# Altium schematic symbol library ICs_EFR.SchLib: 131 symbols (part 1 of 4)
Pins are listed as number, name and electrical type; pins without a type are passive.

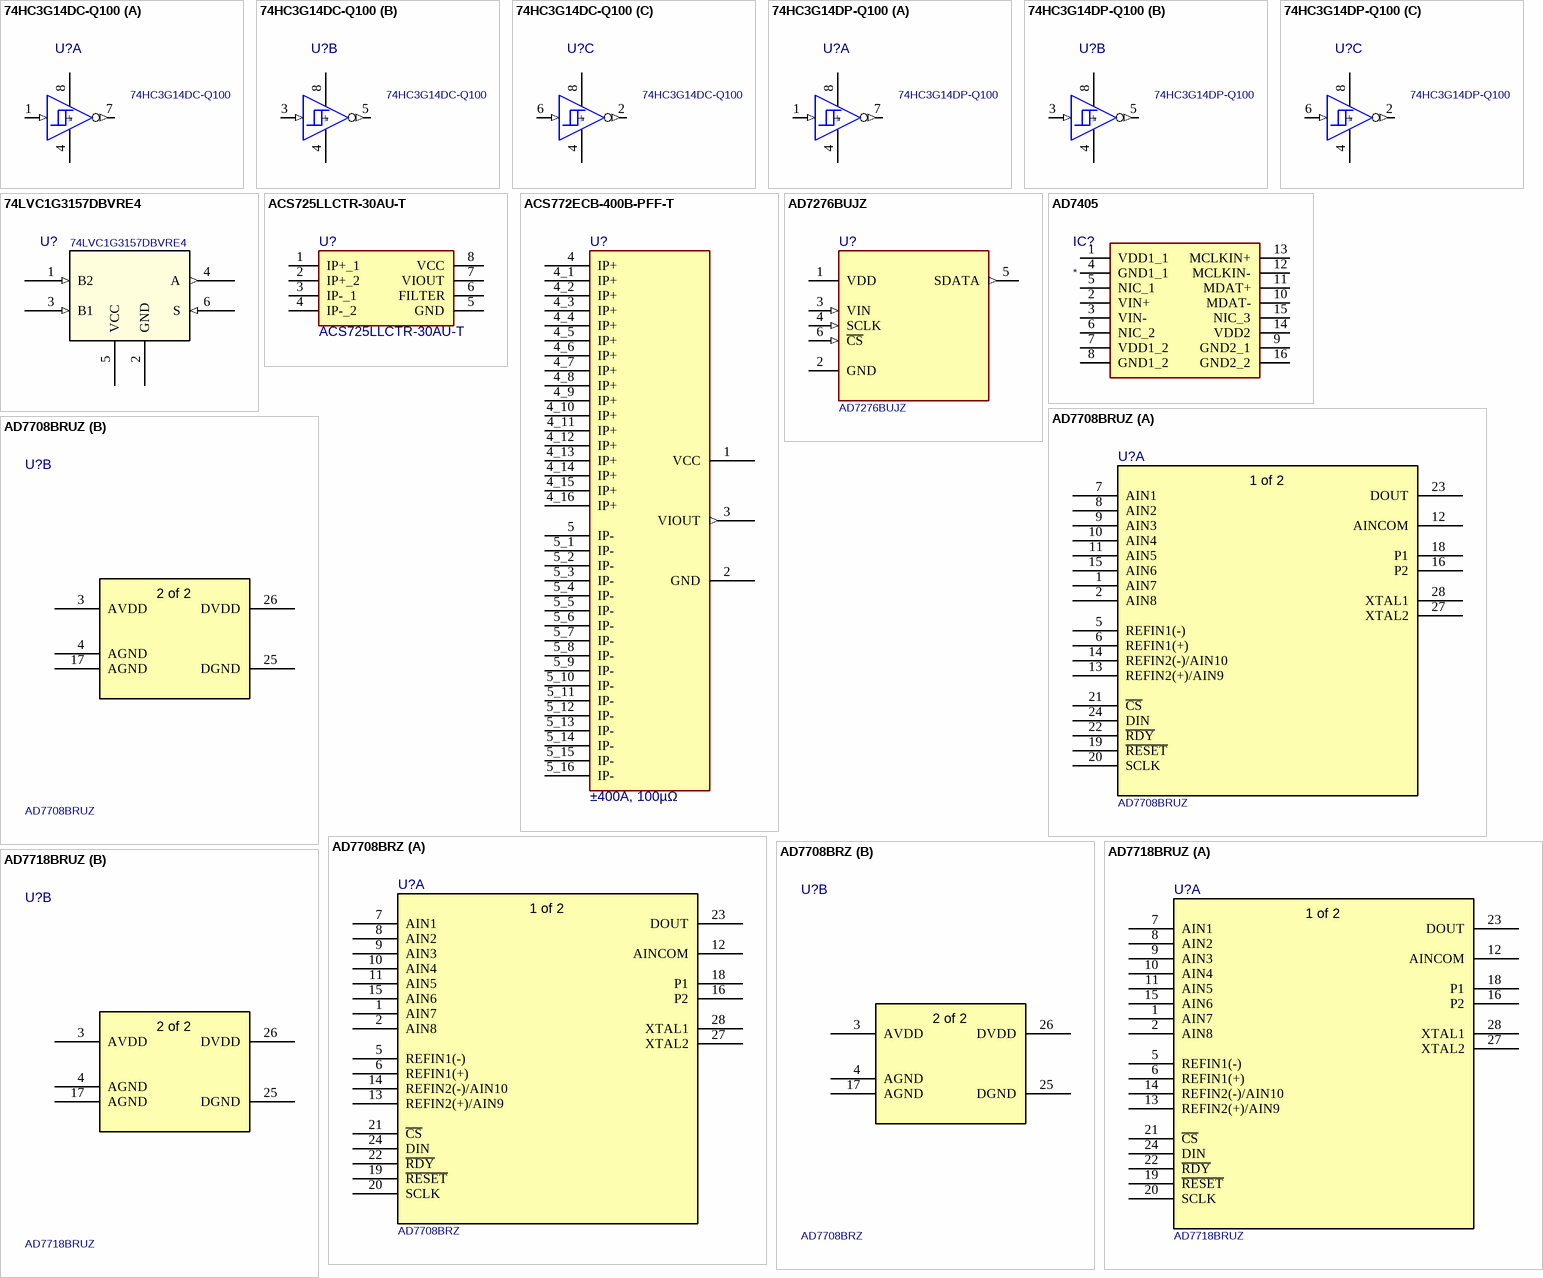
[diagram p0: symbols 74HC3G14DC-Q100 to AD7718BRUZ]

## 74HC3G14DC-Q100
designator U?
Manufacturer: Nexperia; ComponentLink1Description: Datasheet; ComponentLink1URL: https://assets.nexperia.com/documents/data-sheet/74HC_HCT3G14_Q100.pdf; ComponentLink2Description: Manufacturer; ComponentLink2URL: https://www.nexperia.com/products/automotive-qualified-products-aec-q100-q101/automotive-logic/buffers-drivers-transceivers/74HC3G14DC-Q100.html; Manufacturer P/N: 74HC3G14DC-Q100; Supplier 1: Mouser; Supplier 2: Digi-Key; Supplier Part Number 1: 771-74HC3G14DCQ100H; Supplier Part Number 2: 74HC3G14DC-Q100H-ND; Mounting Technology: SMT
footprint VSSOP-8_N
part A pins: 1 1A (in) "Input 1A", 4 - "GND", 7 ~{1Y} (out) "Output 1Y", 8 + "VCC"
part B pins: 3 2A (in) "Input 1A", 4 - "GND", 5 ~{2Y} (out) "Output 1Y", 8 + "VCC"
part C pins: 2 ~{3Y} (out) "Output 1Y", 4 - "GND", 6 3A (in) "Input 1A", 8 + "VCC"

## 74HC3G14DP-Q100
designator U?
Manufacturer: Nexperia; Supplier 1: Mouser; Supplier Part Number 1: 771-74HC3G14DPQ100H; ComponentLink1Description: Datasheet; ComponentLink1URL: https://assets.nexperia.com/documents/data-sheet/74HC_HCT3G14_Q100.pdf; ComponentLink2Description: Manufacturer; ComponentLink2URL: https://www.nexperia.com/products/automotive-qualified-products-aec-q100-q101/automotive-logic/buffers-drivers-transceivers/74HC3G14DP-Q100.html; Manufacturer P/N: 74HC3G14DP-Q100; Mounting Technology: SMT
footprint TSSOP-8_N
part A pins: 1 1A (in) "Input 1A", 4 - "GND", 7 ~{1Y} (out) "Output 1Y", 8 + "VCC"
part B pins: 3 2A (in) "Input 1A", 4 - "GND", 5 ~{2Y} (out) "Output 1Y", 8 + "VCC"
part C pins: 2 ~{3Y} (out) "Output 1Y", 4 - "GND", 6 3A (in) "Input 1A", 8 + "VCC"

## 74LVC1G3157DBVRE4
designator U?
Single-Pole, Double-Throw Analog Switch; Manufacturer: Texas Instruments; GENERIC_PART_NUMBER: SN74LVC1G3157; INDUSTRY_STD_PKG_TYPE: SOT-23; FAMILY_NAME: ANALOG SWITCH/MULTIPLEXER(less than or equal to 5V); Pin Number: 6; PACKAGE_DESIGNATOR: DBV; Manufacturer P/N: 74LVC1G3157DBVRE4; Mounting Technology: SMT; ComponentLink1Description: Manufacturer; ComponentLink1URL: https://www.ti.com/product/SN74LVC1G3157; ComponentLink2Description: Datasheet; ComponentLink2URL: http://www.ti.com/lit/gpn/SN74LVC1G3157
footprint SOT23-6_N
footprint SOT23-6_M
footprint SOT23-6_L
pins: 1 B2 (in), 2 GND (power), 3 B1 (in), 4 A (out), 5 VCC (power), 6 S (in)

## ACS725LLCTR-30AU-T
designator U?
Automotive-Grade, Galvanically Isolated Current Sensor IC with Common-Mode Field Rejection; Manufacturer: Allegro Microsystems; Voltage (V): 3.3; Current (A): 30; Height: 1.75mm; ComponentLink1Description: Datasheet; ComponentLink1URL: https://drive.google.com/file/d/1XpeKl1Jg8fjBcU44cgJn_I6yO4WueG6L/view?usp=sharing; Mounting Technology: SMT; Manufacturer P/N: ACS725LLCTR-30AU-T
footprint SOIC-8_N (R_8_ADI)
pins: 1 IP+_1, 2 IP+_2, 3 IP-_1, 4 IP-_2, 5 GND, 6 FILTER, 7 VIOUT, 8 VCC (power)

## ACS772ECB-400B-PFF-T
designator U?, comment ±400A, 100µΩ
Current Sensor 400A 1 Channel Hall Effect Bidirectional 5-CB Formed Leads, PFF; Manufacturer P/N: ACS772ECB-400B-PFF-T; Manufacturer: Allegro MicroSystems; Pin Number: 5; Lenght (mm): 13; Op. Temperature Max (°C): 85; Op. Temperature Min (°C): -40; Package: CB-5-PFF; ComponentLink1Description: Website; ComponentLink1URL: https://www.allegromicro.com/en/products/sense/current-sensor-ics/fifty-to-two-hundred-amp-integrated-conductor-sensor-ics/acs772; ComponentLink2Description: Datasheet; ComponentLink2URL: https://www.allegromicro.com/~/media/files/datasheets/acs772-datasheet.pdf; ComponentLink3Description: SnapEDA; ComponentLink3URL: https://www.snapeda.com/parts/ACS772LCB-100U-PFF-T/Allegro MicroSystems LLC/view-part/; Supplier 1: Mouser; Supplier Part Number 1: 250-772ECB400BPFFT; Supplier 2: Digikey; Supplier Part Number 2: 620-ACS772ECB-400B-PFF-T-ND; Mounting Technology: THT; Height (mm): 7; Width (mm): 10
footprint CB-5-PFF (Package CB, 5-Pin, Leadform PFF, Allegro MicroSystems)
pins: 1 VCC (power), 2 GND (power), 3 VIOUT (out), 4 IP+, 4_1 IP+, 4_2 IP+, 4_3 IP+, 4_4 IP+, 4_5 IP+, 4_6 IP+, 4_7 IP+, 4_8 IP+, 4_9 IP+, 4_10 IP+, 4_11 IP+, 4_12 IP+, 4_13 IP+, 4_14 IP+, 4_15 IP+, 4_16 IP+, 5 IP-, 5_1 IP-, 5_2 IP-, 5_3 IP-, 5_4 IP-, 5_5 IP-, 5_6 IP-, 5_7 IP-, 5_8 IP-, 5_9 IP-, 5_10 IP-, 5_11 IP-, 5_12 IP-, 5_13 IP-, 5_14 IP-, 5_15 IP-, 5_16 IP-

## AD7276BUJZ
designator U?
12 Bit Analog to Digital Converter 1 Input 1 SAR TSOT-23-6; Manufacturer: Analog Devices; Pin Count: 6; Package: TSOT-6; Mounting Technology: THT; Manufacturer: AD7276BUJZ; ComponentLink1Description: Website; ComponentLink1URL: https://www.analog.com/en/products/ad7276.html; ComponentLink2Description: Datasheet; ComponentLink2URL: https://www.analog.com/media/en/technical-documentation/data-sheets/ad7276_7277_7278.pdf; ComponentLink3Description: SnapEDA; ComponentLink3URL: https://www.snapeda.com/parts/AD7276AUJZ-REEL7/Analog+Devices/view-part/?ref=snap; Supplier 1: Mouser; Supplier Part Number 1: 584-AD7276BUJZ-500R7; Supplier 2: Mouser; Supplier Part Number 2: 584-AD7276BUJZ-R7; Supplier 3: Farnell; Supplier Part Number 3: 4016459RL
footprint TSOT-6 (Thin Small Outline Transistor / Package (TSOT) 6 Lead)
pins: 1 VDD (power), 2 GND, 3 VIN (in), 4 SCLK (in), 5 SDATA (out), 6 ~{CS} (in)

## AD7405
designator IC?
a high performance, second-order, Σ-Δ modulator / that converts an analog input signal into a high speed, single-bit / LVDS data stream, with on-chip digital isolation based on / Analog Devices, Inc., iCoupler® technology; Manufacturer P/N: AD7405; Height (mm): 2.64; Manufacturer: Analog Devices; Mounting Technology: SMT
footprint SOIC127P1031X264-16N
pins: 1 VDD1_1, 2 VIN+, 3 VIN-, 4 GND1_1, 5 NIC_1, 6 NIC_2, 7 VDD1_2, 8 GND1_2, 9 GND2_1, 10 MDAT-, 11 MDAT+, 12 MCLKIN-, 13 MCLKIN+, 14 VDD2, 15 NIC_3, 16 GND2_2

## AD7708BRUZ
designator U?
ADC 16-Bit 8/10-Channel, Low Voltage, Low Power, Sigma Delta ADC; Manufacturer: Analog Devices Inc; Resolution: 16; Manufacturer P/N: AD7708BRUZ; Type: ADC; ComponentLink1Description: Manufacturer; ComponentLink1URL: https://www.analog.com/en/products/ad7708.html; ComponentLink2Description: Datasheet; ComponentLink2URL: https://www.analog.com/media/en/technical-documentation/data-sheets/AD7708_7718.pdf; Package: TSSOP-28; Supplier 1: Mouser; Supplier Part Number 1: 584-AD7708BRUZ; Supplier 2: Digi-Key; Supplier Part Number 2: AD7708BRUZ-ND; Supplier 3: Farnell; Supplier Part Number 3: 4016681; Mounting Technology: SMT
footprint TSSOP-28_L
footprint TSSOP-28_N
footprint TSSOP-28_M
part A pins: 1 AIN7, 2 AIN8, 5 REFIN1(-), 6 REFIN1(+), 7 AIN1, 8 AIN2, 9 AIN3, 10 AIN4, 11 AIN5, 12 AINCOM, 13 REFIN2(+)/AIN9, 14 REFIN2(-)/AIN10, 15 AIN6, 16 P2, 18 P1, 19 ~{RESET}, 20 SCLK, 21 ~{CS}, 22 ~{RDY}, 23 DOUT, 24 DIN, 27 XTAL2, 28 XTAL1
part B pins: 3 AVDD (power), 4 AGND, 17 AGND, 25 DGND, 26 DVDD (power)
part A text: 1 of 2
part B text: 2 of 2

## AD7708BRZ
designator U?
ADC 16-Bit 8/10-Channel, Low Voltage, Low Power, Sigma Delta ADC; Manufacturer: Analog Devices Inc; Resolution: 16; Manufacturer P/N: AD7708BRZ; Type: ADC; ComponentLink1Description: Manufacturer; ComponentLink1URL: https://www.analog.com/en/products/ad7708.html; ComponentLink2Description: Datasheet; ComponentLink2URL: https://www.analog.com/media/en/technical-documentation/data-sheets/AD7708_7718.pdf; Package: SOIC-28; Supplier 1: Mouser; Supplier Part Number 1: 584-AD7708BRZ; Supplier 2: Digi-Key; Supplier Part Number 2: AD7708BRZ-ND; Supplier 3: Farnell; Supplier Part Number 3: 4016685; Mounting Technology: SMT
footprint SOIC-28_L
footprint SOIC-28_N
footprint SOIC-28_M
part A pins: 1 AIN7, 2 AIN8, 5 REFIN1(-), 6 REFIN1(+), 7 AIN1, 8 AIN2, 9 AIN3, 10 AIN4, 11 AIN5, 12 AINCOM, 13 REFIN2(+)/AIN9, 14 REFIN2(-)/AIN10, 15 AIN6, 16 P2, 18 P1, 19 ~{RESET}, 20 SCLK, 21 ~{CS}, 22 ~{RDY}, 23 DOUT, 24 DIN, 27 XTAL2, 28 XTAL1
part B pins: 3 AVDD (power), 4 AGND, 17 AGND, 25 DGND, 26 DVDD (power)
part A text: 1 of 2
part B text: 2 of 2

## AD7718BRUZ
designator U?
ADC 24-Bit 8/10-Channel, Low Voltage, Low Power, Sigma Delta ADC; Manufacturer: Analog Devices Inc; Resolution: 24; Manufacturer P/N: AD7718BRUZ; Type: ADC; ComponentLink1Description: Manufacturer; ComponentLink1URL: https://www.analog.com/en/products/ad7708.html; ComponentLink2Description: Datasheet; ComponentLink2URL: https://www.analog.com/media/en/technical-documentation/data-sheets/AD7708_7718.pdf; Package: TSSOP-28; Supplier 1: Mouser; Supplier Part Number 1: 584-AD7718BRUZ; Supplier 2: Digi-Key; Supplier Part Number 2: AD7718BRUZ-ND; Supplier 3: Farnell; Supplier Part Number 3: 4016711; Mounting Technology: SMT
footprint TSSOP-28_L
footprint TSSOP-28_N
footprint TSSOP-28_M
part A pins: 1 AIN7, 2 AIN8, 5 REFIN1(-), 6 REFIN1(+), 7 AIN1, 8 AIN2, 9 AIN3, 10 AIN4, 11 AIN5, 12 AINCOM, 13 REFIN2(+)/AIN9, 14 REFIN2(-)/AIN10, 15 AIN6, 16 P2, 18 P1, 19 ~{RESET}, 20 SCLK, 21 ~{CS}, 22 ~{RDY}, 23 DOUT, 24 DIN, 27 XTAL2, 28 XTAL1
part B pins: 3 AVDD (power), 4 AGND, 17 AGND, 25 DGND, 26 DVDD (power)
part A text: 1 of 2
part B text: 2 of 2

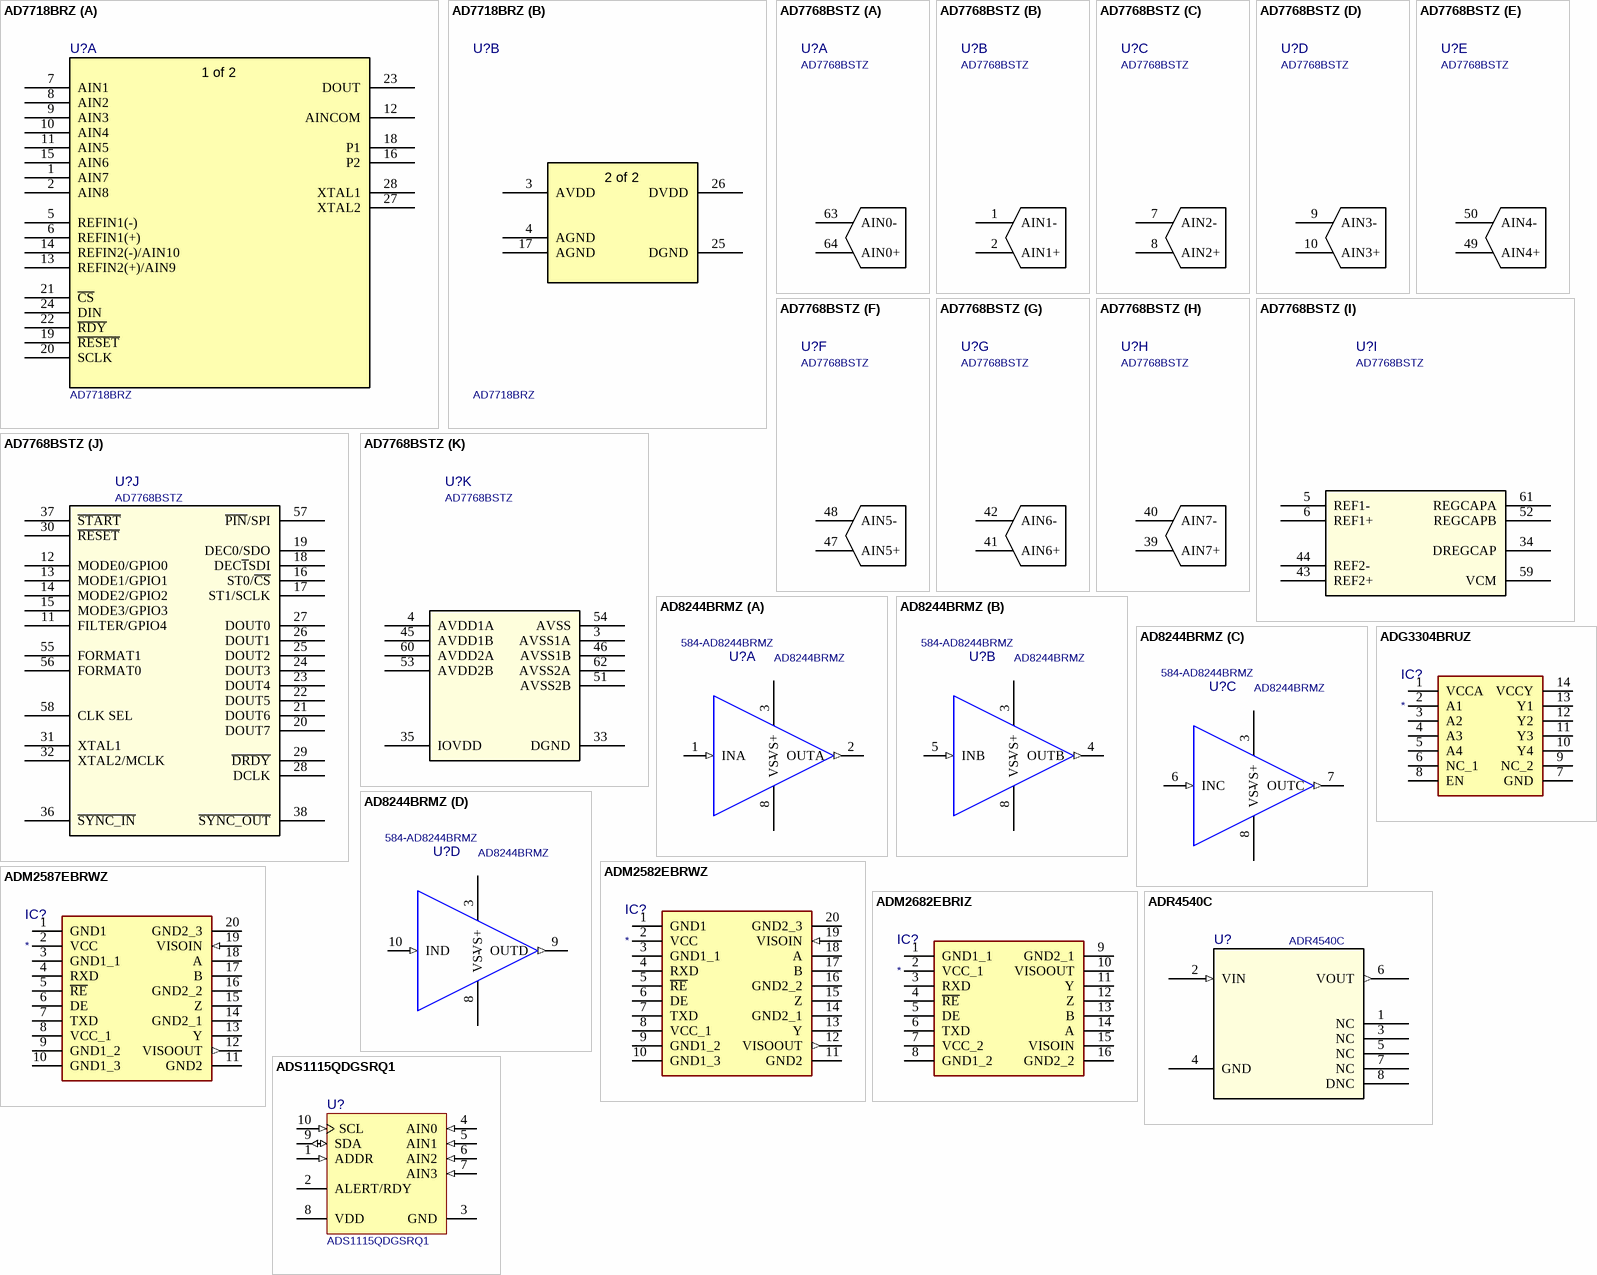
[diagram p1: symbols AD7718BRZ to ADS1115QDGSRQ1]

## AD7718BRZ
designator U?
ADC 24-Bit 8/10-Channel, Low Voltage, Low Power, Sigma Delta ADC; Manufacturer: Analog Devices Inc; Resolution: 24; Manufacturer P/N: AD7718BRZ; Type: ADC; ComponentLink1Description: Manufacturer; ComponentLink1URL: https://www.analog.com/en/products/ad7708.html; ComponentLink2Description: Datasheet; ComponentLink2URL: https://www.analog.com/media/en/technical-documentation/data-sheets/AD7708_7718.pdf; Package: SOIC-28; Supplier 1: Mouser; Supplier Part Number 1: 584-AD7718BRZ; Supplier 2: Digi-Key; Supplier Part Number 2: 505-AD7718BRZ-ND; Supplier 3: Farnell; Supplier Part Number 3: 4016714; Mounting Technology: SMT
footprint SOIC-28_L
footprint SOIC-28_N
footprint SOIC-28_M
part A pins: 1 AIN7, 2 AIN8, 5 REFIN1(-), 6 REFIN1(+), 7 AIN1, 8 AIN2, 9 AIN3, 10 AIN4, 11 AIN5, 12 AINCOM, 13 REFIN2(+)/AIN9, 14 REFIN2(-)/AIN10, 15 AIN6, 16 P2, 18 P1, 19 ~{RESET}, 20 SCLK, 21 ~{CS}, 22 ~{RDY}, 23 DOUT, 24 DIN, 27 XTAL2, 28 XTAL1
part B pins: 3 AVDD (power), 4 AGND, 17 AGND, 25 DGND, 26 DVDD (power)
part A text: 1 of 2
part B text: 2 of 2

## AD7768BSTZ
designator U?
8-Channel, 24-Bit, Simultaneous Sampling / ADCs with Power Scaling, 110.8 kHz BW; Manufacturer: Analog Devices; ComponentLink1Description: Datasheet; ComponentLink1URL: https://www.analog.com/media/en/technical-documentation/data-sheets/AD7768-7768-4.pdf; ComponentLink2Description: Website; ComponentLink2URL: https://www.analog.com/products/ad7768.html; ComponentLink3Description: User Guide; ComponentLink3URL: https://www.analog.com/media/en/technical-documentation/user-guides/EVAL-AD7768FMCZ_UG-917.pdf; Manufacturer P/N: AD7768BSTZ; Mounting Technology: SMT
footprint LQFP64_L (AD_ST-64-2)
footprint LQFP64_M (AD_ST-64-2)
footprint LQFP64_N (AD_ST-64-2)
part A pins: 63 AIN0-, 64 AIN0+
part B pins: 1 AIN1-, 2 AIN1+
part C pins: 7 AIN2-, 8 AIN2+
part D pins: 9 AIN3-, 10 AIN3+
part E pins: 49 AIN4+, 50 AIN4-
part F pins: 47 AIN5+, 48 AIN5-
part G pins: 41 AIN6+, 42 AIN6-
part H pins: 39 AIN7+, 40 AIN7-
part I pins: 5 REF1-, 6 REF1+, 34 DREGCAP, 43 REF2+, 44 REF2-, 52 REGCAPB, 59 VCM, 61 REGCAPA
part J pins: 11 FILTER/GPIO4, 12 MODE0/GPIO0, 13 MODE1/GPIO1, 14 MODE2/GPIO2, 15 MODE3/GPIO3, 16 ST0/~{CS}, 17 ST1/SCLK, 18 DEC~{1}SDI, 19 DEC0/SDO, 20 DOUT7, 21 DOUT6, 22 DOUT5, 23 DOUT4, 24 DOUT3, 25 DOUT2, 26 DOUT1, 27 DOUT0, 28 DCLK, 29 ~{DRDY}, 30 ~{RESET}, 31 XTAL1, 32 XTAL2/MCLK, 36 ~{SYNC_IN}, 37 ~{START}, 38 ~{SYNC_OUT}, 55 FORMAT1, 56 FORMAT0, 57 ~{PIN}/SPI, 58 CLK SEL
part K pins: 3 AVSS1A, 4 AVDD1A, 33 DGND, 35 IOVDD, 45 AVDD1B, 46 AVSS1B, 51 AVSS2B, 53 AVDD2B, 54 AVSS, 60 AVDD2A, 62 AVSS2A

## AD8244BRMZ
designator U?  Supplier Part Number 1: 584-AD8244BRMZ
IC BUFFER QUAD FET-INPUT 10MSOP; Manufacturer: Analog Devices; Pin Number: 10; Number of Circuits: 4; Slew Rate: 0.8V/µs; -3db Bandwidth: 3MHz; Input Bias Current: 0.5pA; Input Offset Voltage (Vos): 350uV; Operating Supply Current: 180uA; Output Current per Channel: 8mA; Common Mode Rejection Ratio: 61.8dB; Min Supply Voltage: 3V; Max Supply Voltage: 36V; Min Dual Supply Voltage: 1.5V; Max Dual Supply Voltage: 18V; Voltage Gain: 0dB; Power Supply Rejection Ratio (PSRR): 90dB; Settling Time: 18us; Input Capacitance: 3.3pF; Nominal Supply Current: 2.5mA; Bandwidth: 3.6MHz; Max Frequency: 1kHz; ComponentLink1Description: Datasheet; ComponentLink1URL: https://www.analog.com/media/en/technical-documentation/data-sheets/AD8244.pdf; ComponentLink2Description: Manufacturer; ComponentLink2URL: https://www.analog.com/en/products/ad8244.html; ComponentLink3Description: User Guide; ComponentLink3URL: https://www.analog.com/media/en/technical-documentation/user-guides/AD8244-EVALZ_UG-650.pdf; Supplier 1: Mouser; Manufacturer P/N: AD8244BRMZ; RoHS: Yes; Category: Amplifiers - Op Amps, Buffer, Instrumentation; Stock 1: 117; Pricing 1: 1=6,71000, 10=5,78000, 50=5,63000, 100=5,01000, 1000=3,98000, 10000=3,98000 (USD); Mounting Technology: SMT; Case/Package: MSOP; Min Operating Temperature: -40°C; Max Operating Temperature: 85°C; Gain Bandwidth Product: 3MHz; Packaging: Rail/Tube; Quiescent Current: 180uA; Number of Amplifiers: 4; Length: 3.1mm; Width: 3.1mm; Height: 0.95mm; Lead Free: Contains Lead; REACH SVHC: No SVHC
footprint MSOP_10_L (10-Lead Plastic MSOP)
footprint MSOP_10_N (10-Lead Plastic MSOP)
footprint MSOP_10_M (10-Lead Plastic MSOP)
part A pins: 1 INA (in), 2 OUTA (out), 3 VS+ (power), 8 VS- (power)
part B pins: 3 VS+ (power), 4 OUTB (out), 5 INB (in), 8 VS- (power)
part C pins: 3 VS+ (power), 6 INC (in), 7 OUTC (out), 8 VS- (power)
part D pins: 3 VS+ (power), 8 VS- (power), 9 OUTD (out), 10 IND (in)

## ADG3304BRUZ
designator IC?
bidirectional logic level translator that contains four bidirectional channels; Manufacturer: Analog Devices; Manufacturer P/N: ADG3304BRUZ; Height (mm): 1.2; Mounting Technology: SMT; Supplier 1: Mouser; Supplier Part Number 1: 584-ADG3304BRUZ; Supplier 2: RS; Supplier Part Number 2: 0412826P
footprint SOP65P640X120-14N
pins: 1 VCCA, 2 A1, 3 A2, 4 A3, 5 A4, 6 NC_1, 7 GND, 8 EN, 9 NC_2, 10 Y4, 11 Y3, 12 Y2, 13 Y1, 14 VCCY

## ADM2582EBRWZ
designator IC?
Isolated RS-485/RS-422 transceiver, configurable as half or / full duplex / isoPower integrated isolated dc-to-dc converter / ±15 kV ESD protection on RS-485 input/output pins; Manufacturer: Analog Devices; Manufacturer P/N: ADM2582EBRWZ; Height (mm): 2.65; Mounting Technology: SMT; Supplier 1: Mouser; Supplier Part Number 1: 584-ADM2582EBRWZ; Supplier 2: RS; Supplier Part Number 2: 7427799P; ComponentLink1Description: Website; ComponentLink1URL: https://www.analog.com/en/products/adm2582e.html; ComponentLink2Description: Datasheet; ComponentLink2URL: https://www.analog.com/media/en/technical-documentation/data-sheets/adm2582e_2587e.pdf
footprint SOIC127P1032X265-20N
pins: 1 GND1 (power), 2 VCC (power), 3 GND1_1 (power), 4 RXD, 5 ~{RE}, 6 DE, 7 TXD, 8 VCC_1 (power), 9 GND1_2 (power), 10 GND1_3 (power), 11 GND2 (power), 12 VISOOUT (out), 13 Y, 14 GND2_1 (power), 15 Z, 16 GND2_2 (power), 17 B, 18 A, 19 VISOIN (in), 20 GND2_3 (power)

## ADM2587EBRWZ
designator IC?
Isolated RS-485/RS-422 transceiver, configurable as half or / full duplex / isoPower integrated isolated dc-to-dc converter / ±15 kV ESD protection on RS-485 input/output pins / Complies with ANSI/TIA/EIA-485-A-98 and ISO 8482:1987(E); Manufacturer: Analog Devices; Manufacturer P/N: ADM2587EBRWZ; Height (mm): 2.65; Mounting Technology: SMT; Supplier 1: Mouser; Supplier Part Number 1: 584-ADM2587EBRWZ; Supplier 2: RS; Supplier Part Number 2: 7427786P; ComponentLink1Description: Website; ComponentLink1URL: https://www.analog.com/en/products/adm2587e.html; ComponentLink2Description: Datasheet; ComponentLink2URL: https://www.analog.com/media/en/technical-documentation/data-sheets/adm2582e_2587e.pdf
footprint SOIC127P1032X265-20N
pins: 1 GND1 (power), 2 VCC (power), 3 GND1_1 (power), 4 RXD, 5 ~{RE}, 6 DE, 7 TXD, 8 VCC_1 (power), 9 GND1_2 (power), 10 GND1_3 (power), 11 GND2 (power), 12 VISOOUT (out), 13 Y, 14 GND2_1 (power), 15 Z, 16 GND2_2 (power), 17 B, 18 A, 19 VISOIN (in), 20 GND2_3 (power)

## ADM2682EBRIZ
designator IC?
Isolated RS-485/RS-422 transceiver, configurable as half or / full duplex / isoPower integrated isolated dc-to-dc converter / ±15 kV ESD protection on RS-485 input/output pins; Manufacturer: Analog Devices; Manufacturer P/N: ADM2682EBRIZ; Datasheet Link: http://uk.rs-online.com/web/p/products/7968978; Height (mm): 2.64; Mouser Part Number: 584-ADM2682EBRIZ; Mouser Price/Stock: https://www.mouser.com/Search/Refine.aspx?Keyword=584-ADM2682EBRIZ; RS Part Number: 7968978P; RS Price/Stock: http://uk.rs-online.com/web/p/products/7968978P; ComponentLink1Description: Website; ComponentLink1URL: https://www.analog.com/en/products/adm2682e.html; ComponentLink2Description: Datasheet; ComponentLink2URL: https://www.analog.com/media/en/technical-documentation/data-sheets/ADM2682E_2687E.pdf; Mounting Technology: SMT; Supplier 1: Mouser; Supplier Part Number 1: 584-ADM2682EBRIZ; Supplier 2: RS; Supplier Part Number 2: 7968978P
footprint SOIC127P1031X264-16N
pins: 1 GND1_1, 2 VCC_1, 3 RXD, 4 ~{RE}, 5 DE, 6 TXD, 7 VCC_2, 8 GND1_2, 9 GND2_1, 10 VISOOUT, 11 Y, 12 Z, 13 B, 14 A, 15 VISOIN, 16 GND2_2

## ADR4540C
designator U?
Ultralow Noise, High Accuracy Voltage References 4.096V; Manufacturer P/N: ADR4540ARZ; Manufacturer: Analog Devices Inc; Mounting Technology: SMT; ComponentLink1Description: Datasheet; ComponentLink1URL: https://www.analog.com/media/en/technical-documentation/data-sheets/adr4520_4525_4530_4533_4540_4550.pdf; ComponentLink2Description: Manufacturer; ComponentLink2URL: https://www.analog.com/en/products/adr4540.html
footprint SOIC-8_M (R_8_ADI)
footprint SOIC-8_L (R_8_ADI)
footprint SOIC-8_N (R_8_ADI)
pins: 1 NC, 2 VIN (in), 3 NC, 4 GND (power), 5 NC, 6 VOUT (out), 7 NC, 8 DNC

## ADS1115QDGSRQ1
designator U?
Automotive Catalog 16-Bit ADC with Integrated Multiplexer, PGA, Comparator, Oscillator, and Reference, -40 to 125 degC, 10-pin SOP (DGS10), Green (RoHS & no Sb/Br); Manufacturer: Texas Instruments; # Input Channels: 4; Digital Supply(Max)(V): 5.5; Digital Supply(Min)(V): 2; Interface: Serial I2C; Architecture: Delta-Sigma; SubFamily: Precision ADC (<=10MSPS); Sample Rate (max)(SPS): 860; Resolution(Bits): 16; Code_JEDEC: MO-153; Mounting Technology: SMT; PackageDescription: 10-Pin Plastic Small Outline, Body 3 x 3 mm, Pitch 0.5 mm; PackageReference: DGS10; Manufacturer P/N: ADS1115QDGSRQ1; Analog Voltage AV/DD(Min)(V): 2; Analog Voltage AV/DD(Max)(V): 5.5; Power (W): *; Voltage (V): *; Current (A): *; Resistance: *; Capacitance: *; Tolerance: *; Value: *; ComponentLink1Description: Datasheet; ComponentLink1URL: https://www.ti.com/lit/ds/symlink/ads1115-q1.pdf; ComponentLink2Description: Manufacturer; ComponentLink2URL: https://www.ti.com/product/ADS1115-Q1
footprint TI-DGS10_L (SOP, 10-Leads, Body 3x3mm, Pitch 0.5mm, IPC High Density)
footprint TI-DGS10_N (SOP, 10-Leads, Body 3x3mm, Pitch 0.5mm, IPC Medium Density)
footprint TI-DGS10_M (SOP, 10-Leads, Body 3x3mm, Pitch 0.5mm, IPC Low Density)
pins: 1 ADDR (in) "I2C slave address select", 2 ALERT/RDY (oc) "Digital comparator output or conversion ready", 3 GND (power) "Ground", 4 AIN0 (in) "Differential channel 1: Positive input or single-ended channel 1 input", 5 AIN1 (in) "Differential channel 1: Negative input or single-ended channel 2 input", 6 AIN2 (in) "Differential channel 2: Positive input or single-ended channel 3 input", 7 AIN3 (in) "Differential channel 2: Negative input or single-ended channel 4 input", 8 VDD (power) "Power supply: 2.0V to 5.5V", 9 SDA (io) "Serial data: Transmits and receives data", 10 SCL (in) "Serial clock input: Clocks data on SDA"

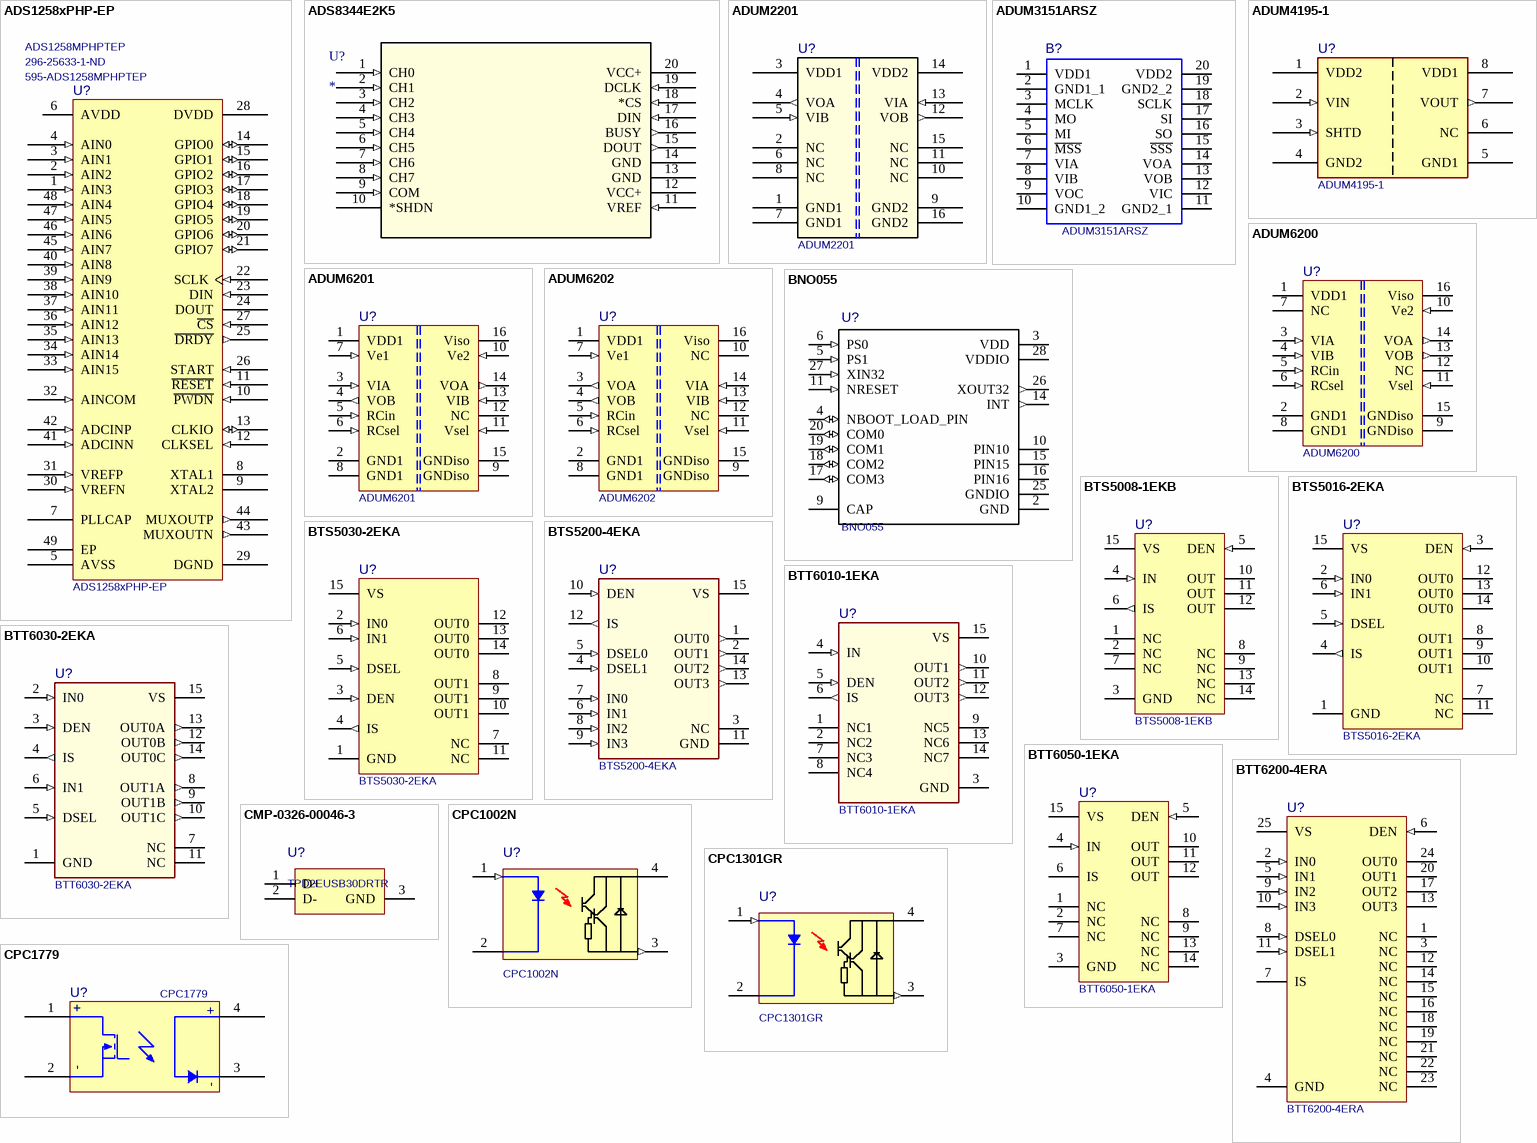
[diagram p2: symbols ADS1258xPHP-EP to CPC1779]

## ADS1258xPHP-EP
designator U?  Supplier Part Number 1: 595-ADS1258MPHPTEP  Supplier Part Number 2: 296-25633-1-ND  Supplier Part Number 3: ADS1258MPHPTEP
24-Bit ADC, 16-Channel, Enhanced Product, -55 to 125 degC, 48-pin QFP (PHP48), Green (RoHS & no Sb/Br); Manufacturer: Texas Instruments; # Input Channels: 16; Architecture: Delta-Sigma; SubFamily: Precision ADC (<=10MSPS); Digital Supply(Min)(V): 2.7; Digital Supply(Max)(V): 5.25; Analog Voltage AV/DD(Min)(V): 4.75; Resolution(Bits): 24; Sample Rate (max)(SPS): 125k; PackageVersion: 4146927/B, 08/2003; Eco-Plan: Green (RoHS & no Sb/Br); Code_JEDEC: MS-026; ComponentLink2URL: http://www.ti.com/general/docs/lit/getliterature.tsp?genericPartNumber=ADS1258-EP&fileType=pdf; Mounting Technology: SMT; Manufacturer P/N: ADS1258xPHP-EP; DatasheetVersion: SBAS445D; PackageDescription: 48-Pin PowerPAD(TM) Plastic Quad Flatpack, Body 7 x 7 mm, Pitch 0.5 mm; ComponentLink1URL: https://www.ti.com/product/ADS1258-EP; Analog Voltage AV/DD(Max)(V): 5.25; ComponentLink1Description: Manufacturer; ComponentLink3Description: Package Specification; PackageReference: PHP48-4050X4050TP; ComponentLink2Description: Datasheet; ComponentLink3URL: http://www.ti.com/litv/pdf/mpqf051a; Supplier 1: Mouser; Supplier 2: Digi-Key; Supplier 3: Arrow Electronics
footprint HTQFP48_N (QFP, 48-Leads, Body 7x7mm, Pitch 0.5mm, Thermal Pad 4.6x4.6mm, IPC Medium Density)
footprint HTQFP48_L (QFP, 48-Leads, Body 7x7mm, Pitch 0.5mm, Thermal Pad 4.6x4.6mm, IPC High Density)
footprint HTQFP48_M (QFP, 48-Leads, Body 7x7mm, Pitch 0.5mm, Thermal Pad 4.6x4.6mm, IPC Low Density)
pins: 1 AIN3 (in) "Analog Input 3: Single-Ended Channel 3, Differential Channel 1 (-)", 2 AIN2 (in) "Analog Input 2: Single-Ended Channel 2, Differential Channel 1 (+)", 3 AIN1 (in) "Analog Input 1: Single-Ended Channel 1, Differential Channel 0 (-)", 4 AIN0 (in) "Analog Input 0: Single-Ended Channel 0, Differential Channel 0 (+)", 5 AVSS (power) "Negative Analog Power Supply: 0V for unipolar operation, -2.5 V for bipolar operation. (Internally connected to exposed thermal pad of QFN package.)", 6 AVDD (power) "Positive Analog Power Supply: 5 V for unipolar operation, 2.5 V for bipolar operation.", 7 PLLCAP "PLL Bypass Capacitor: Connect 22nF capacitor to AVSS when using crystal oscillator.", 8 XTAL1 "32.768-kHz Crystal Oscillator Input 1; see the Chrystal Oscillator section.", 9 XTAL2 "32.768-kHz Crystal Oscillator Input 2; see the Chrystal Oscillator section.", 10 ~{PWDN} (in) "Power-Down Input: Hold low for minimum of two fCLK cycles to engage low-power mode.", 11 ~{RESET} (in) "Reset Input: Hold low for minimum of two fCLK cycles to reset the device.", 12 CLKSEL (in) "Clock Select Input: Low = Activates Crystal Oscillator, fCLK output on CLKIO. High = Disables Crystal Oscillator, apply fCLK to CLKIO.", 13 CLKIO (io) "System Clock Input/Output (See CLKSEL pin.)", 14 GPIO0 (io) "General-Purpose Digital Input/Output 0", 15 GPIO1 (io) "General-Purpose Digital Input/Output 1", 16 GPIO2 (io) "General-Purpose Digital Input/Output 2", 17 GPIO3 (io) "General-Purpose Digital Input/Output 3", 18 GPIO4 (io) "General-Purpose Digital Input/Output 4", 19 GPIO5 (io) "General-Purpose Digital Input/Output 5", 20 GPIO6 (io) "General-Purpose Digital Input/Output 6", 21 GPIO7 (io) "General-Purpose Digital Input/Output 7", 22 SCLK (in) "SPI Interface Clock Input: Data clocked in on rising edge, clocked out on falling edge.", 23 DIN (in) "SPI Interface Data Input: Data is input to the device.", 24 DOUT (hiz) "SPI Interface Data Output: Data is output from the device.", 25 ~{DRDY} (out) "Data Ready Output: Active low.", 26 START (in) "Start Conversion Input: Active high.", 27 ~{CS} (in) "SPI Interface Chip Select Input: Active low.", 28 DVDD (power) "Digital Power Supply: 2.7 V to 5.25 V", 29 DGND (power) "Digital Ground", 30 VREFN (in) "Reference Input Negative", 31 VREFP (in) "Reference Input Positive", 32 AINCOM (in) "Analog Input Common: Common input pin to all single-ended inputs.", 33 AIN15 (in) "Analog Input 15: Single-Ended Channel 15, Differential Channel 7 (-)", 34 AIN14 (in) "Analog Input 14: Single-Ended Channel 14, Differential Channel 7 (+)", 35 AIN13 (in) "Analog Input 13: Single-Ended Channel 13, Differential Channel 6 (-)", 36 AIN12 (in) "Analog Input 12: Single-Ended Channel 12, Differential Channel 6 (+)", 37 AIN11 (in) "Analog Input 11: Single-Ended Channel 11, Differential Channel 5 (-)", 38 AIN10 (in) "Analog Input 10: Single-Ended Channel 10, Differential Channel 5 (+)", 39 AIN9 (in) "Analog Input 9: Single-Ended Channel 9, Differential Channel 4 (-)", 40 AIN8 (in) "Analog Input 8: Single-Ended Channel 8, Differential Channel 4 (+)", 41 ADCINN (in) "ADC Differential Input (-)", 42 ADCINP (in) "ADC Differential Input (+)", 43 MUXOUTN (out) "Multiplexer Differential Output (-)", 44 MUXOUTP (out) "Multiplexer Differential Output (+)", 45 AIN7 (in) "Analog Input 7: Single-Ended Channel 7, Differential Channel 3 (-)", 46 AIN6 (in) "Analog Input 6 : Single-Ended Channel 6, Differential Channel 3 (+)", 47 AIN5 (in) "Analog Input 5: Single-Ended Channel 5, Differential Channel 2 (-)", 48 AIN4 (in) "Analog Input 4: Single-Ended Channel 4, Differential Channel 2 (+)", 49 EP (power)

## ADS8344E2K5
designator U?
No Description Available; Mfr_Name: Texas Instruments; RefDes: RefDes; Type: Type
footprint DBQ20
footprint DBQ24-M
footprint DBQ24-L
pins: 1 CH0 (in), 2 CH1 (in), 3 CH2 (in), 4 CH3 (in), 5 CH4 (in), 6 CH5 (in), 7 CH6 (in), 8 CH7 (in), 9 COM (in), 10 *SHDN, 11 VREF (in), 12 VCC+ (power), 13 GND (power), 14 GND (power), 15 DOUT (out), 16 BUSY (out), 17 DIN (in), 18 *CS (in), 19 DCLK (in), 20 VCC+ (power)

## ADUM2201
designator U?
Dual-Channel Digital Isolators, 5 kV; Manufacturer: Analog Devices; Pin Number: 16; Manufacturer P/N: ADuM2201; ComponentLink1Description: Datasheet; ComponentLink1URL: https://www.analog.com/media/en/technical-documentation/data-sheets/ADuM2200_2201.pdf; Mounting Technology: SMT
footprint SOIC_IC_16 (RI-16-1) (SOIC, 16-Leads, Body 12,80x7,50mm, Pitch 1,27mm, IPC Low Density)
footprint SOIC_W_16 (RW-16) (SOIC, 16-Leads, Body 10,5x7,6mm (max), Pitch 1,27mm, IPC Medium Density)
pins: 1 GND1 (power) "Ground 1. Ground reference for Isolator Side 1. Pin 1 and Pin 7 are internally connected to each other, and it is recommended that both pins be connected to a common ground.", 2 NC "No Internal Connection.", 3 VDD1 (power) "Supply Voltage for Isolator Side 1, 3.0 V to 5.5 V.", 4 VOA (out) "Logic Output A.", 5 VIB (in) "Logic Input B.", 6 NC "No Internal Connection.", 7 GND1 (power) "Ground 1. Ground reference for Isolator Side 1. Pin 1 and Pin 7 are internally connected to each other, and it is recommended that both pins be connected to a common ground.", 8 NC "No Internal Connection.", 9 GND2 (power) "Ground 2. Ground reference for Isolator Side 2. Pin 9 and Pin 16 are internally connected to each other, and it is recommended that both pins be connected to a common ground", 10 NC "No Internal Connection.", 11 NC "No Internal Connection.", 12 VOB (out) "Logic Output B.", 13 VIA (in) "Logic Input A", 14 VDD2 (power) "Supply Voltage for Isolator Side 2, 3.0 V to 5.5 V.", 15 NC "No Internal Connection.", 16 GND2 (power) "Ground 2. Ground reference for Isolator Side 2. Pin 9 and Pin 16 are internally connected to each other, and it is recommended that both pins be connected to a common ground"

## ADUM3151ARSZ
designator B?
Digital Isolator CMOS 7-CH 2Mbps 20-Pin SSOP Tube; Manufacturer: Analog Devices; Manufacturer P/N: ADUM3151ARSZ; Height (mm): 2; Mounting Technology: SMT; Supplier 1: Mouser; Supplier Part Number 1: 584-ADUM3151ARSZ; ComponentLink1Description: Website; ComponentLink1URL: https://www.analog.com/en/products/adum3151.html; ComponentLink2Description: Datasheet; ComponentLink2URL: https://www.analog.com/media/en/technical-documentation/data-sheets/ADuM3151_3152_3153.pdf
footprint SOP65P780X200-20N
footprint SOIC-24_N (DW24) (SOIC, 24-Leads, Body 15.6x7.6mm, Pitch 1.27mm, IPC Medium Density)
pins: 1 VDD1, 2 GND1_1, 3 MCLK, 4 MO, 5 MI, 6 ~{MSS}, 7 VIA, 8 VIB, 9 VOC, 10 GND1_2, 11 GND2_1, 12 VIC, 13 VOB, 14 VOA, 15 ~{SSS}, 16 SO, 17 SI, 18 SCLK, 19 GND2_2, 20 VDD2

## ADUM4195-1
designator U?
Isolated Amplifier with Fixed Gain and Single-Ended Output; Manufacturer: Analog Devices Inc; Type: Isolation Amplifier; Manufacturer P/N: ADUM4195-1; ComponentLink1Description: Manufacturer; ComponentLink1URL: https://www.analog.com/en/products/adum4195-1.html; ComponentLink2Description: Datasheet; ComponentLink2URL: https://www.analog.com/media/en/technical-documentation/data-sheets/adum4195-1.pdf; Mounting Technology: SMT
footprint SOIC-8_L (R_8_ADI)
footprint SOIC-8_N (R_8_ADI)
footprint SOIC-8_M (R_8_ADI)
pins: 1 VDD2 (power) "Supply Voltage for Side 2 (4.5 V to 5.5 V). Connect a 0.1 μF capacitor and a 1 μF capacitor between VDD2 and GND2.", 2 VIN (in) "Operational Amplifier (Op Amp) Buffer Input.", 3 SHTD (in) "Shutdown Input, Active-High, with Internal Pull-Down Resistor (Typical Value: 100 kΩ). SHTD must be actively driven or shorted to GND2.", 4 GND2 (power) "Ground Reference for Side 2.", 5 GND1 (power) "Ground Reference for Side 1.", 6 NC "No Connect. Connect Pin 6 to GND1 or VDD1. Do not leave Pin 6 floating.", 7 VOUT (out) "Analog Output Voltage.", 8 VDD1 (power) "Supply Voltage for Side 1 (4.5 V to 5.5 V). Connect a 0.1 μF capacitor and a 1 μF capacitor between VDD1 and GND1."

## ADUM6200
designator U?
Dual-Channel, 5 kV Isolators with Integrated DC-to-DC Converter; Manufacturer: Analog Devices; Pin Number: 16; ComponentLink1Description: Datasheet (Online); ComponentLink1URL: https://www.analog.com/media/en/technical-documentation/data-sheets/ADuM6200_6201_6202.pdf; ComponentLink2Description: Datasheet (Local); ComponentLink2URL: ..\Datasheet\Analog_Devices\ADuM6200_6201_6202.pdf; ComponentLink3Description: Datasheet (SVN); ComponentLink3URL: https://teamsvn.elbflorace.de/00_Bibliothek/Libraries/Altium/AltiumLibs/Datasheet/Analog_Devices/ADuM6200_6201_6202.pdf; ComponentLink4Description: Manufacturer-Site; ComponentLink4URL: https://www.analog.com/en/products/adum6200.html; Manufacturer P/N: ADUM6200; Mounting Technology: SMT
footprint SOIC_IC_16 (RI-16-1) (SOIC, 16-Leads, Body 12,80x7,50mm, Pitch 1,27mm, IPC Low Density)
footprint SOIC_W_16 (RW-16) (SOIC, 16-Leads, Body 10,5x7,6mm (max), Pitch 1,27mm, IPC Medium Density)
pins: 1 VDD1 "Primary Supply Voltage, 3.0 V to 5.5 V.", 2 GND1 "Ground Reference for the Primary Side of the Isolator. Pin 2 and Pin 8 are internally connected to each other, and it is recommended that both pins be connected to a common ground.", 3 VIA (in) "Logic Input A", 4 VIB (in) "Logic Input B", 5 RCin (in) "Regulation Control Input. This pin must be connected to the RCOUT pin of a master isoPower device or tied low. This pin must not be tied high if RCSEL is low; this combination causes excessive voltage on the secondary sideof the isolator, damaging the ADuM6200 and possibly the devices that it powers.", 6 RCsel (in) "Control Input. Determines self-regulation mode (RCSEL high) or slave mode (RCSEL low), allowing external regulation. This pin is weakly pulled to the high state. In noisy environments, tie this pin either high or low.", 7 NC "No Internal Connection", 8 GND1 "Ground Reference for the Primary Side of the Isolator. Pin 2 and Pin 8 are internally connected to each other, and it is recommended that both pins be connected to a common ground.", 9 GNDiso "Internally connected to Pin 15, connect to isolated ground", 10 Ve2 (in) "Data Enable Input. When this pin is high or not connected, the secondary output is active; when this pin is low, the output is in a high-Z state.", 11 Vsel (in) "Output Voltage Selection. When VSEL = VISO, the VISO setpoint is 5.0 V. When VSEL = GNDISO, the VISO setpoint is 3.3 V.  In slave regulation mode, this pin has no function.", 12 NC "No Internal Connection.", 13 VOB (out) "Logic Input B", 14 VOA (out) "Logic Output A", 15 GNDiso "Ground Reference for the Secondary Side of the Isolator. Pin 9 and Pin 15 are internally connected to each other, and it is recommended that both pins be connected to a common ground.", 16 Viso "Secondary Supply Voltage. Output for secondary side isolated data channels and external loads."

## ADUM6201
designator U?
Dual-Channel, 5 kV Isolators with Integrated DC-to-DC Converter; Manufacturer: Analog Devices; Pin Number: 16; ComponentLink1Description: Datasheet (Online); ComponentLink1URL: https://www.analog.com/media/en/technical-documentation/data-sheets/ADuM6200_6201_6202.pdf; ComponentLink2Description: Datasheet (Local); ComponentLink2URL: ..\Datasheet\Analog_Devices\ADuM6200_6201_6202.pdf; ComponentLink3Description: Datasheet (SVN); ComponentLink3URL: https://teamsvn.elbflorace.de/00_Bibliothek/Libraries/Altium/AltiumLibs/Datasheet/ADuM6200_6201_6202.pdf; ComponentLink4Description: Manufacturer-Site; ComponentLink4URL: https://www.analog.com/en/products/adum6201.html; Manufacturer P/N: ADuM6201; Mounting Technology: SMT
footprint SOIC_IC_16 (RI-16-1) (SOIC, 16-Leads, Body 12,80x7,50mm, Pitch 1,27mm, IPC Low Density)
footprint SOIC_W_16 (RW-16) (SOIC, 16-Leads, Body 10,5x7,6mm (max), Pitch 1,27mm, IPC Medium Density)
pins: 1 VDD1 "Primary Supply Voltage, 3.0 V to 5.5 V.", 2 GND1 "Ground Reference for the Primary Side of the Isolator. Pin 2 and Pin 8 are internally connected to each other, and it is recommended that both pins be connected to a common ground.", 3 VIA (in) "Logic Input A", 4 VOB (out) "Logic Output B", 5 RCin (in) "Regulation Control Input. This pin must be connected to the RCOUT pin of a master isoPower device or tied low. This pin must not be tied high if RCSEL is low; this combination causes excessive voltage on the secondary side of the isolator, damaging the ADuM6201 and possibly the devices that it powers.", 6 RCsel (in) "Control Input. Determines self-regulation mode (RCSEL high) or slave mode (RCSEL low), allowing external regulation. This pin is weakly pulled to the high state. In noisy environments, tie this pin either high or low.", 7 Ve1 (in) "Data Enable Input. When this pin is high or not connected, the primary output is active; when this pin is low, the output is in a high-Z state.", 8 GND1 "Ground Reference for the Primary Side of the Isolator. Pin 2 and Pin 8 are internally connected to each other, and it is recommended that both pins be connected to a common ground.", 9 GNDiso "Internally connected to Pin 15, connect to isolated ground", 10 Ve2 (in) "Data Enable Input. When this pin is high or not connected, the secondary output is active; when this pin is low, the output is in a high-Z state.", 11 Vsel (in) "Output Voltage Selection. When VSEL = VISO, the VISO setpoint is 5.0 V. When VSEL = GNDISO, the VISO setpoint is 3.3 V.  In slave regulation mode, this pin has no function.", 12 NC "No Internal Connection.", 13 VIB (in) "Logic Input B", 14 VOA (out) "Logic Output A", 15 GNDiso "Ground Reference for the Secondary Side of the Isolator. Pin 9 and Pin 15 are internally connected to each other, and it is recommended that both pins be connected to a common ground.", 16 Viso "Secondary Supply Voltage. Output for secondary side isolated data channels and external loads."

## ADUM6202
designator U?
Dual-Channel, 5 kV Isolators with Integrated DC-to-DC Converter; Manufacturer: Analog Devices; Pin Number: 16; ComponentLink1Description: Datasheet (Online); ComponentLink1URL: https://www.analog.com/media/en/technical-documentation/data-sheets/ADuM6200_6201_6202.pdf; ComponentLink2Description: Datasheet (Local); ComponentLink2URL: ..\Datasheet\Analog_Devices\ADuM6200_6201_6202.pdf; ComponentLink3Description: Datasheet (SVN); ComponentLink3URL: https://teamsvn.elbflorace.de/00_Bibliothek/Libraries/Altium/AltiumLibs/Datasheet/Analog_Devices/ADuM6200_6201_6202.pdf; ComponentLink4Description: Manufacturer-Site; ComponentLink4URL: https://www.analog.com/en/products/adum6202.html; Manufacturer P/N: ADuM6202; Mounting Technology: SMT
footprint SOIC_IC_16 (RI-16-1) (SOIC, 16-Leads, Body 12,80x7,50mm, Pitch 1,27mm, IPC Low Density)
footprint SOIC_W_16 (RW-16) (SOIC, 16-Leads, Body 10,5x7,6mm (max), Pitch 1,27mm, IPC Medium Density)
pins: 1 VDD1 "Primary Supply Voltage, 3.0 V to 5.5 V.", 2 GND1 "Ground Reference for the Primary Side of the Isolator. Pin 2 and Pin 8 are internally connected to each other, and it is recommended that both pins be connected to a common ground.", 3 VOA (out) "Logic Output A", 4 VOB (out) "Logic Output B", 5 RCin (in) "Regulation Control Input. This pin must be connected to the RCOUT pin of a master isoPower device or tied low. This pin must not be tied high if RCSEL is low; this combination causes excessive voltage on the secondary sideof the isolator, damaging the ADuM6202 and possibly the devices that it powers.", 6 RCsel (in) "Control Input. Determines self-regulation mode (RCSEL high) or slave mode (RCSEL low), allowing external regulation. This pin is weakly pulled to the high state. In noisy environments, tie this pin either high or low.", 7 Ve1 (in) "Data Enable Input. When this pin is high or not connected, the primary output is active; when this pin is low, the output is in a high-Z state.", 8 GND1 "Ground Reference for the Primary Side of the Isolator. Pin 2 and Pin 8 are internally connected to each other, and it is recommended that both pins be connected to a common ground.", 9 GNDiso "Internally connected to Pin 15, connect to isolated ground", 10 NC "No Internal Connection.", 11 Vsel (in) "Output Voltage Selection. When VSEL = VISO, the VISO setpoint is 5.0 V. When VSEL = GNDISO, the VISO setpoint is 3.3 V.  In slave regulation mode, this pin has no function.", 12 NC "No Internal Connection.", 13 VIB (in) "Logic Input B", 14 VIA (in) "Logic Input A", 15 GNDiso "Ground Reference for the Secondary Side of the Isolator. Pin 9 and Pin 15 are internally connected to each other, and it is recommended that both pins be connected to a common ground.", 16 Viso "Secondary Supply Voltage. Output for secondary side isolated data channels and external loads."

## BNO055
designator U?
Accelerometer, Gyroscope, Magnetometer, 9 Axis Sensor IÂ²C, UART Output; Manufacturer: Bosch; Manufacturer P/N: BNO055; Package: LGA-28 Bosch; ComponentLink1Description: Hersteller; ComponentLink1URL: https://www.mouser.de/ProductDetail/Bosch-Sensortec/BNO055?qs=QhAb4EtQfbV8Z2YmISucWw==; ComponentLink2Description: Datenblatt; ComponentLink2URL: https://www.mouser.de/datasheet/2/783/BST-BNO055-DS000-1509603.pdf; ComponentLink3Description: SnapEDA; ComponentLink3URL: https://www.snapeda.com/parts/BNO055/Bosch%20Sensortec/view-part/51961/?ref=snap; Mounting Technology: SMT
footprint LGA28R50P4X10_380X520X100
pins: 2 GND (power), 3 VDD (power), 4 NBOOT_LOAD_PIN (io), 5 PS1 (in), 6 PS0 (in), 9 CAP, 10 PIN10 (power), 11 NRESET (in), 14 INT (out), 15 PIN15 (power), 16 PIN16 (power), 17 COM3 (io), 18 COM2 (io), 19 COM1 (io), 20 COM0 (io), 25 GNDIO (power), 26 XOUT32 (out), 27 XIN32 (in), 28 VDDIO (power)

## BTS5008-1EKB
designator U?
Smart Highside Power Switch Single Channnel, 8 mOhm, -40 to 150 degC, PG-DSO-14-47, Reel, Green; Manufacturer: Infineon; Green: TRUE; Packing: Reel; PackageDescription: 14-Pin Plastic (Green) Dual Small Outline Package, 8.65 x 3.9 mm Body, 1.27 mm Pitch; PackageReference: PG-DSO-14-47 EP; DatasheetVersion: Rev. 2.0; ComponentLink2Description: Datasheet; ComponentLink1URL: http://www.infineon.com/; Code_JEDEC: MS-012; Mounting Technology: SMT; RevisionNote: Lost Devices pt2; ComponentLink3URL: http://www.infineon.com/dgdl/BTS5008-1EKB-Data-Sheet-20-Infineon.pdf?folderId=db3a304314dca3890114df197b25000f&fileId=db3a30433daca496013db00d97ac1594&sId=db3a30433f2e70c5013f420039644e8f; ComponentLink1Description: Manufacturer URL; ComponentLink3Description: Package Specification; Manufacturer P/N: BTS5008-1EKB; Halogen-free: TRUE; ComponentLink2URL: http://www.infineon.com/dgdl/BTS5008-1EKB-Data-Sheet-20-Infineon.pdf?folderId=db3a304314dca3890114df197b25000f&fileId=db3a30433daca496013db00d97ac1594; PackageVersion: Apr-12
footprint INF-PG-DSO-14-47 EP_M (SOP, 14-Leads, Body 8.65x3.9mm, Pitch 1.27mm, Thermal Pad 6.5x2.75mm, IPC Low Density)
footprint INF-PG-DSO-14-47 EP_N (SOP, 14-Leads, Body 8.65x3.9mm, Pitch 1.27mm, Thermal Pad 6.5x2.75mm, IPC Medium Density)
footprint INF-PG-DSO-14-47 EP_L (SOP, 14-Leads, Body 8.65x3.9mm, Pitch 1.27mm, Thermal Pad 6.5x2.75mm, IPC High Density)
pins: 1 NC "Not Connected; No internal connection to the chip", 2 NC "Not Connected; No internal connection to the chip", 3 GND (power) "GrouND; Ground connection", 4 IN (in) "INput channel; Input signal for channel activation", 5 DEN (in) "Diagnostic ENable; Digital signal to enable/disable the diagnosis of the device", 6 IS (out) "Sense; Sense current of the selected channel", 7 NC "Not Connected; No internal connection to the chip", 8 NC "Not Connected; No internal connection to the chip", 9 NC "Not Connected; No internal connection to the chip", 10 OUT (power) "OUTput; Protected high side power output channel", 11 OUT (power) "OUTput; Protected high side power output channel", 12 OUT (power) "OUTput; Protected high side power output channel", 13 NC "Not Connected; No internal connection to the chip", 14 NC "Not Connected; No internal connection to the chip", 15 VS (power) "Voltage Supply; Battery voltage"

## BTS5016-2EKA
designator U?
Smart High-Side Power Switch, 5 V to 28 V, -40 to 150 degC, PG-DSO-14, Reel, Green; Manufacturer: Infineon; Load Current (typ): 8 A; ton (max): 200 us; Recommended Operating Voltage Min.: 5 V; Diagnostic: Sense; Ptot (max): 2 W; RON (max) @ Tj: 150degreesC=32 mOhm; RON @ Tj: 25degreesC=16 mOhm; Channels: 2; Green: TRUE; Recommended Operating Voltage Max.: 28 V; ComponentLink1URL: http://www.infineon.com/; ComponentLink2URL: https://www.infineon.com/dgdl/Infineon-BTS5016-2EKA-DS-v01_00-EN.pdf?fileId=5546d4625a888733015aa41a5e161129; ComponentLink3URL: http://www.infineon.com/dgdl/BTS5030-2EKA_Data-Sheet_21.pdf?folderId=db3a30431400ef68011421b54e2e0564&fileId=db3a30432a14dd54012a3c882d7f5994&sId=db3a30433d68e984013d83e34cd77b82; DatasheetVersion: Rev. 1.0; Halogen-free: TRUE; Mounting Technology: SMT; Manufacturer P/N: BTS5016-2EKA; Packing: Reel; Code_JEDEC: MS-012; PackageVersion: Sep-11; PackageReference: PG-DSO-14-40; Mounting: SMT; ComponentLink3Description: Package Specification; toff (max): 200 us; PackageDescription: 14-Pin Plastic (Green) Dual Small Outline Package, 8.65 x 3.9 mm Body, 1.27 mm Pitch; ComponentLink2Description: Datasheet; ComponentLink1Description: Manufacturer URL
footprint INF-PG-DSO-14-40_L (SOP, 14-Leads, Body 8.65x3.9mm, Pitch 1.27mm, Thermal Pad 6.5x2.75mm, IPC High Density)
footprint INF-PG-DSO-14-40_M (SOP, 14-Leads, Body 8.65x3.9mm, Pitch 1.27mm, Thermal Pad 6.5x2.6mm, IPC Low Density)
footprint INF-PG-DSO-14-40_N (SOP, 14-Leads, Body 8.65x3.9mm, Pitch 1.27mm, Thermal Pad 6.5x2.75mm, IPC Medium Density)
pins: 1 GND (power) "GrouND; Ground connection", 2 IN0 (in) "INput channel 0; Input signal for channel 0 activation", 3 DEN (in) "Diagnostic ENable; Digital signal to enable/disable the diagnosis of the device", 4 IS (out) "Sense; Sense current of the selected channel", 5 DSEL (in) "Diagnostic SELection; Digital signal to select the channel to be diagnosed", 6 IN1 (in) "INput channel 1; Input signal for channel 1 activation", 7 NC "Not Connected; No internal connection to the chip", 8 OUT1 (power) "OUTput 1; Protected high side power output channel 1", 9 OUT1 (power) "OUTput 1; Protected high side power output channel 1", 10 OUT1 (power) "OUTput 1; Protected high side power output channel 1", 11 NC "Not Connected; No internal connection to the chip", 12 OUT0 (power) "OUTput 0; Protected high side power output channel 0", 13 OUT0 (power) "OUTput 0; Protected high side power output channel 0", 14 OUT0 (power) "OUTput 0; Protected high side power output channel 0", 15 VS (power) "Voltage Supply; Battery voltage"

## BTS5030-2EKA
designator U?
Smart High-Side Power Switch, 5 V to 28 V, -40 to 150 degC, PG-DSO-14, Reel, Green; Manufacturer: Infineon; Load Current (typ): 4 A; ton (max): 200 us; Recommended Operating Voltage Min.: 5 V; Diagnostic: Sense; Ptot (max): 2 W; RON (max) @ Tj: 150degreesC=32 mOhm; RON @ Tj: 25degreesC=16 mOhm; Channels: 2; Green: TRUE; Recommended Operating Voltage Max.: 28 V; ComponentLink1URL: http://www.infineon.com/; ComponentLink2URL: https://www.infineon.com/dgdl/Infineon-BTS5030-2EKA-DS-v02_01-EN.pdf?fileId=5546d4625a888733015aa41a4f9f1125; ComponentLink3URL: http://www.infineon.com/dgdl/BTS5030-2EKA_Data-Sheet_21.pdf?folderId=db3a30431400ef68011421b54e2e0564&fileId=db3a30432a14dd54012a3c882d7f5994&sId=db3a30433d68e984013d83e34cd77b82; DatasheetVersion: Rev. 1.0; Halogen-free: TRUE; Mounting Technology: SMT; Manufacturer P/N: BTS5030-2EKA; Packing: Reel; Code_JEDEC: MS-012; PackageVersion: Sep-11; PackageReference: PG-DSO-14-40; Mounting: SMT; ComponentLink3Description: Package Specification; toff (max): 200 us; PackageDescription: 14-Pin Plastic (Green) Dual Small Outline Package, 8.65 x 3.9 mm Body, 1.27 mm Pitch; ComponentLink2Description: Datasheet; ComponentLink1Description: Manufacturer URL
footprint INF-PG-DSO-14-40_L (SOP, 14-Leads, Body 8.65x3.9mm, Pitch 1.27mm, Thermal Pad 6.5x2.75mm, IPC High Density)
footprint INF-PG-DSO-14-40_M (SOP, 14-Leads, Body 8.65x3.9mm, Pitch 1.27mm, Thermal Pad 6.5x2.6mm, IPC Low Density)
footprint INF-PG-DSO-14-40_N (SOP, 14-Leads, Body 8.65x3.9mm, Pitch 1.27mm, Thermal Pad 6.5x2.75mm, IPC Medium Density)
pins: 1 GND (power) "GrouND; Ground connection", 2 IN0 (in) "INput channel 0; Input signal for channel 0 activation", 3 DEN (in) "Diagnostic ENable; Digital signal to enable/disable the diagnosis of the device", 4 IS (out) "Sense; Sense current of the selected channel", 5 DSEL (in) "Diagnostic SELection; Digital signal to select the channel to be diagnosed", 6 IN1 (in) "INput channel 1; Input signal for channel 1 activation", 7 NC "Not Connected; No internal connection to the chip", 8 OUT1 (power) "OUTput 1; Protected high side power output channel 1", 9 OUT1 (power) "OUTput 1; Protected high side power output channel 1", 10 OUT1 (power) "OUTput 1; Protected high side power output channel 1", 11 NC "Not Connected; No internal connection to the chip", 12 OUT0 (power) "OUTput 0; Protected high side power output channel 0", 13 OUT0 (power) "OUTput 0; Protected high side power output channel 0", 14 OUT0 (power) "OUTput 0; Protected high side power output channel 0", 15 VS (power) "Voltage Supply; Battery voltage"

## BTS5200-4EKA
designator U?
Smart High-Side Power Switch, Quad Channel, 32 mOhm; Manufacturer: Infineon Technologies; Manufacturer P/N: BTS5200-4EKA; PackageReference: PG-DSO-14-48-EP; ComponentLink1Description: Datasheet; ComponentLink1URL: https://www.infineon.com/dgdl/Infineon-BTS5200-4EKA-DS-v01_00-EN.pdf?fileId=5546d4625a888733015aa3fee7cd1052; ComponentLink2Description: Manufacturer; ComponentLink2URL: https://www.infineon.com/cms/en/product/power/smart-low-side-high-side-switches/automotive-smart-high-side-switch-profet/profet-12v/bts5200-4eka/#!packaging; Mounting Technology: SMT
footprint INF-PG-DSO-14-48 (Footprint not found)
pins: 1 OUT0 (out) "OUTput 0; Protected high side power output channel 0.", 2 OUT1 (out) "Output 1; Protected high side power output channel 1.", 3 NC "Not Connected; No internal connection to the chip.", 4 DSEL1 (in) "Diagnostic Selection; Digital signal to select the channel to be diagnosed.", 5 DSEL0 (in) "Diagnostic Selection; Digital signal to select the channel to be diagnosed.", 6 IN1 (in) "Input channel 1; Input signal for channel 1 activation.", 7 IN0 (in) "Input channel 0; Input signal for channel 0 activation.", 8 IN2 (in) "Input channel 2; Input signal for channel 2 activation.", 9 IN3 (in) "Input channel 3; Input signal for channel 3 activation.", 10 DEN (in) "Diagnostic Enable; Digital signal to enable/disable the diagnosis of the device.", 11 GND (power) "Ground", 12 IS (out) "Sense; Sense current of the selected channel.", 13 OUT3 (out) "Output 3; Protected high side power output channel 3.", 14 OUT2 (out) "Output 2; Protected high side power output channel 2.", 15 VS (power) "Voltage Supply; Battery voltage"

## BTT6010-1EKA
designator U?
Smart High-Side Power Switch, Single Channel, 10 mOhm, PROFET +24V; Manufacturer: Infineon Technologies; ComponentLink1Description: Datasheet; ComponentLink1URL: https://www.infineon.com/dgdl/Infineon-BTT6010-1EKA-DataSheet-v01_01-EN.pdf?fileId=5546d4626da6c043016dc935cfed39a3; ComponentLink2Description: Manufacturer; ComponentLink2URL: https://www.infineon.com/cms/en/product/power/smart-low-side-high-side-switches/automotive-smart-high-side-switch-profet/profet-24v/btt6010-1eka/; Type: High-Side-Mosfet; Manufacturer P/N: BTT6010-1EKA; Package: PG-DSO-14-47 EP; Mounting Technology: SMT
footprint INF-PG-DSO-14-47 EP_L (SOP, 14-Leads, Body 8.65x3.9mm, Pitch 1.27mm, Thermal Pad 6.5x2.75mm, IPC High Density)
footprint INF-PG-DSO-14-47 EP_N (SOP, 14-Leads, Body 8.65x3.9mm, Pitch 1.27mm, Thermal Pad 6.5x2.75mm, IPC Medium Density)
footprint INF-PG-DSO-14-47 EP_M (SOP, 14-Leads, Body 8.65x3.9mm, Pitch 1.27mm, Thermal Pad 6.5x2.75mm, IPC Low Density)
pins: 1 NC1 "Not Connected", 2 NC2 "Not Connected", 3 GND (power) "Ground", 4 IN (in) "Input channel", 5 DEN (in) "Diagnostic Enable", 6 IS (out) "Sense", 7 NC3 "Not Connected", 8 NC4 "Not Connected", 9 NC5 "Not Connected", 10 OUT1 (out) "Output", 11 OUT2 (out) "Output", 12 OUT3 (out) "Output", 13 NC6 "Not Connected", 14 NC7 "Not Connected", 15 VS (power) "Voltage Supply"